# EAGLE library part LM324N (library GM cassette faker)
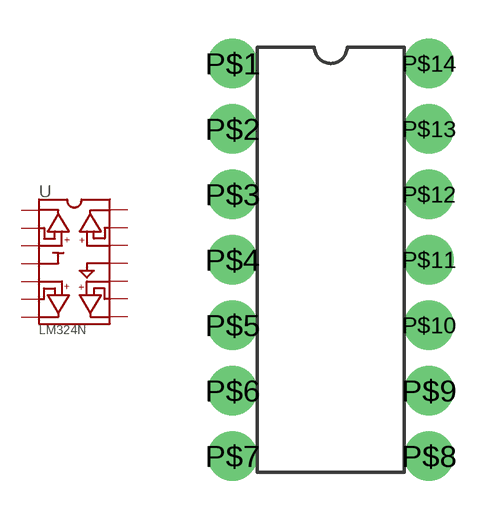
[diagram p0: symbol with the pads of DIP14; footprint DIP14]

Designator prefix U

## LM324N  [DIP14]
P$1  AO
P$2  A-
P$3  A+
P$4  VCC
P$5  B+
P$6  B-
P$7  BO
P$8  CO
P$9  C-
P$10  C+
P$11  GND
P$12  D+
P$13  D-
P$14  DO

## Footprint DIP14 (pad centres in mm)
drill 1 pad 1.93: P$1 -3.81,7.62; P$2 -3.81,5.08; P$3 -3.81,2.54; P$4 -3.81,0; P$5 -3.81,-2.54; P$6 -3.81,-5.08; P$7 -3.81,-7.62; P$8 3.81,-7.62; P$9 3.81,-5.08; P$10 3.81,-2.54; P$11 3.81,0; P$12 3.81,2.54; P$13 3.81,5.08; P$14 3.81,7.62